# Altium footprint library k7sch6.PcbLib: 4 footprints
Each footprint in its own frame and in the unit in brackets; x right, y up, seen from the top. Pads: shape width x height; smd on the part's side, far side on the other; paste and mask are expansions set on the pad; w line width, h text height; cw(c..) or ccw(c..) is an arc to the next point about the centre after c.
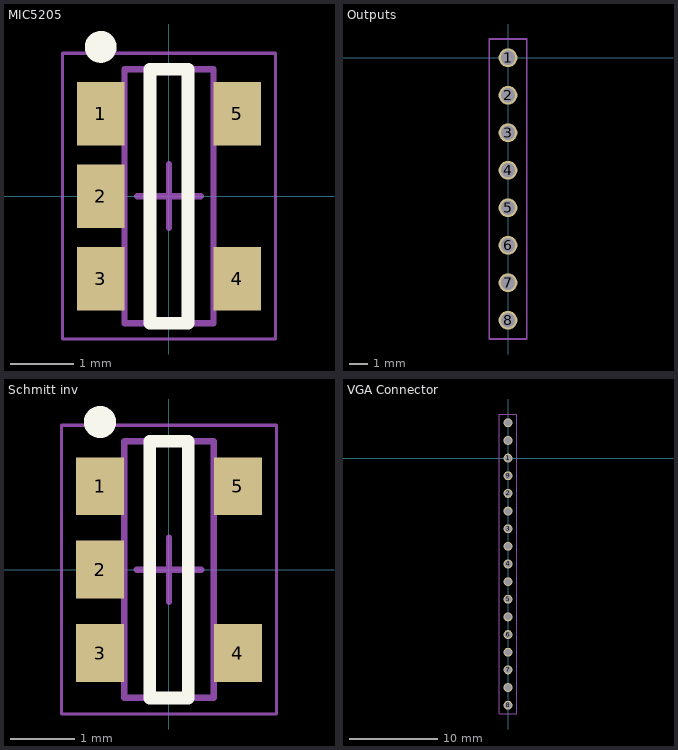
[diagram p0: the footprints below, top view; thin cyan lines are the x and y axes]

## MIC5205 [mm]
height 1.1
pads (5):
  rect 0.75x1 smd: 1(-1.075,1.3) 2(-1.075,0) 3(-1.075,-1.3) 4(1.075,-1.3) 5(1.075,1.3)
Top Overlay:
  circle w0.25: c-1.075,2.35 r0.125
  lines w0.2: -0.3,-2 0.3,-2 0.3,2 -0.3,2 -0.3,-2
Mechanical 13:
  lines w0.1: -0.7,-2 -0.7,2 0.7,2 0.7,-2 -0.7,-2
Mechanical 15:
  lines w0.05: -1.675,-2.25 -1.675,2.25 1.675,2.25 1.675,-2.25 -1.675,-2.25
  lines w0.1: -0.5,0 0.5,0 ; 0,-0.5 0,0.5
3D body: height 1.1, standoff 0.05, extent -0.7,-2 0.7,2

## Outputs [mm]
pads (8):
  round 1 hole 0.75: 1(0,0) 2(0,-2) 3(0,-4) 4(0,-6) 5(0,-8) 6(0,-10) 7(0,-12) 8(0,-14)
Mechanical 15:
  lines w0.1: -1,-15 1,-15 1,1 -1,1 -1,-15

## Schmitt inv [mm]
height 1.1
pads (5):
  rect 0.75x0.9 smd: 1(-1.075,1.3) 2(-1.075,0) 3(-1.075,-1.3) 4(1.075,-1.3) 5(1.075,1.3)
Top Overlay:
  circle w0.25: c-1.075,2.3 r0.125
  lines w0.2: -0.3,-2 -0.3,2 0.3,2 0.3,-2 -0.3,-2
Mechanical 13:
  lines w0.1: -0.7,-2 0.7,-2 0.7,2 -0.7,2 -0.7,-2
Mechanical 15:
  lines w0.05: -1.675,-2.25 1.675,-2.25 1.675,2.25 -1.675,2.25 -1.675,-2.25
  lines w0.1: -0.5,0 0.5,0 ; 0,-0.5 0,0.5
3D body: height 1.1, standoff 0.05, extent -0.7,-2 0.7,2

## VGA Connector [mm]
pads (17):
  round 1 hole 0.75: 1(0,0) 2(0,-4) 3(0,-8) 4(0,-12) 5(0,-16) 6(0,-20) 7(0,-24) 8(0,-28) 9(0,-2) 10(0,-6) 11(0,-10) 12(0,-14) 13(0,-18) 14(0,-22) 15(0,-26) 16(0,2) 17(0,4)
Mechanical 15:
  lines w0.1: -1,-29 1,-29 1,5 -1,5 -1,-29